# Altium schematic symbol library CL10B104KB8NNWC.SchLib: 2 symbols
Pins are listed as number, name and electrical type; pins without a type are passive.

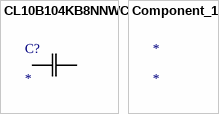
[diagram p0: symbols CL10B104KB8NNWC to Component_1]

## CL10B104KB8NNWC
designator C?
No Description Available; Mfr_Name: Samsung
footprint CAP_CL10_SAM
pins: 1, 2

## Component_1
designator *